# Altium footprint library SMB(DO-214AA)_S3.PcbLib: 1 footprints
Each footprint in its own frame and in the unit in brackets; x right, y up, seen from the top. Pads: shape width x height; smd on the part's side, far side on the other; paste and mask are expansions set on the pad; w line width, h text height; cw(c..) or ccw(c..) is an arc to the next point about the centre after c.
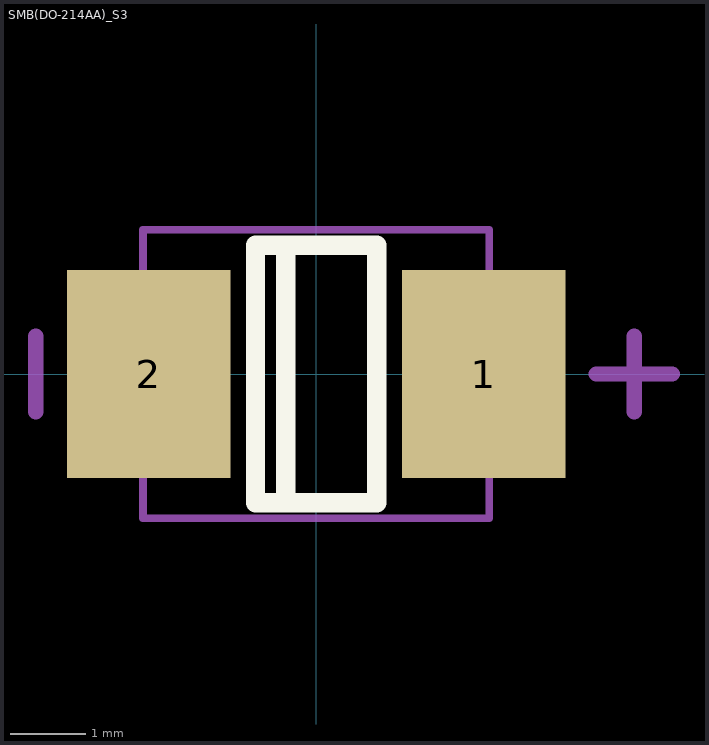
[diagram p0: the footprint, top view; thin cyan lines are the x and y axes]

## SMB(DO-214AA)_S3 [mil]
pads (2):
  rect 85x107.99 smd: 1(87.01,0) 2(-87.01,0)
Top Overlay:
  lines w10: -15.75,-66.93 -15.75,66.93 ; -31.5,-66.93 31.5,-66.93 31.5,66.93 -31.5,66.93 -31.5,-66.93
Mechanical 13:
  lines w3.94: -89.96,-75 89.96,-75 89.96,75 -89.96,75 -89.96,-75
Mechanical 15:
  lines w8: -145.67,-19.68 -145.67,19.68 ; 145.67,0 185.04,0 ; 165.35,-19.68 165.35,19.68